# Altium footprint library PCB - CONNECTOR - SAMTEC IPL1-103-01-L-S-K.PCBLIB: 1 footprints
Each footprint in its own frame and in the unit in brackets; x right, y up, seen from the top. Pads: shape width x height; smd on the part's side, far side on the other; paste and mask are expansions set on the pad; w line width, h text height; cw(c..) or ccw(c..) is an arc to the next point about the centre after c.
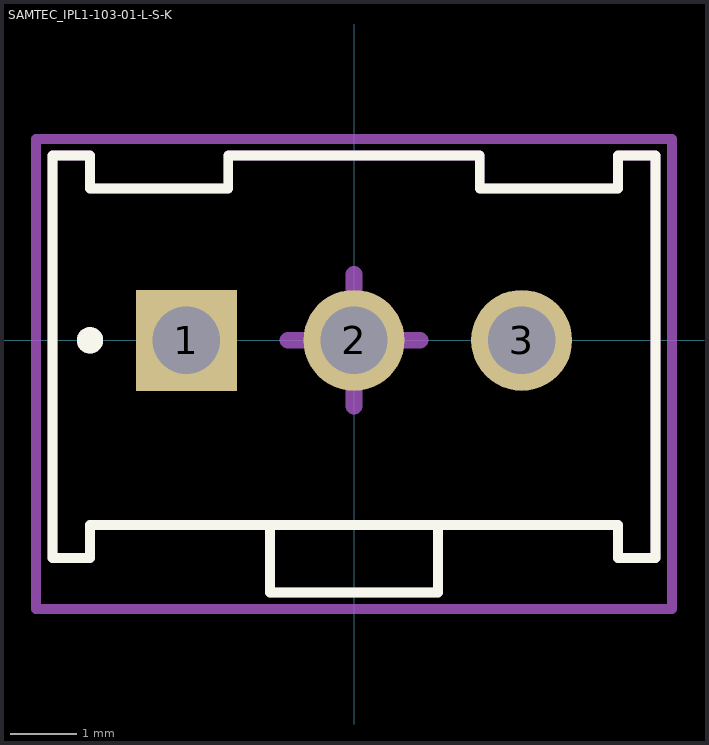
[diagram p0: the footprint, top view; thin cyan lines are the x and y axes]

## SAMTEC_IPL1-103-01-L-S-K [mm]
pads (3):
  rect 1.53x1.53 hole 1.02: 1(-2.54,0)
  round 1.53 hole 1.02: 2(0,0) 3(2.54,0)
Top Overlay:
  circle w0.2: c-4,0 r0.1
  lines w0.15: -1.27,-2.8 1.27,-2.8 ; -1.27,-2.8 -1.27,-3.82 1.27,-3.82 1.27,-2.8 ; -1.27,-2.8 -3.999,-2.8 -3.999,-3.3 -4.57,-3.3 -4.57,2.8 -3.999,2.8 -3.999,2.3 -1.905,2.3 -1.905,2.8 1.905,2.8 1.905,2.3 3.999,2.3 3.999,2.8 4.57,2.8 4.57,-3.3 3.999,-3.3 3.999,-2.8 1.27,-2.8
Top Assembly:
  circle w0.2: c-4,0 r0.1
  lines w0.15: -1.27,-2.8 -3.999,-2.8 -3.999,-3.3 -4.57,-3.3 -4.57,2.8 -3.999,2.8 -3.999,2.3 -1.905,2.3 -1.905,2.8 1.905,2.8 1.905,2.3 3.999,2.3 3.999,2.8 4.57,2.8 4.57,-3.3 3.999,-3.3 3.999,-2.8 1.27,-2.8 ; -1.27,-2.8 -1.27,-3.82 1.27,-3.82 1.27,-2.8 ; -1.27,-2.8 1.27,-2.8
Top Courtyard:
  lines w0.15: -4.82,-4.07 -4.82,3.05 4.82,3.05 4.82,-4.07 -4.82,-4.07
Top Designator (Mech9):
  text ".Designator" at -2.251,-1.226 h1
Top Component Center:
  lines w0.254: -1,0 1,0 ; 0,-1 0,1
3D body "IPL1-103-01-L-S-K.stp": height 7.63, standoff -3.54, extent -4.574,-3.804 4.57,2.8